# Altium schematic symbol library 0039281063.SchLib: 1 symbol
Pins are listed as number, name and electrical type; pins without a type are passive.

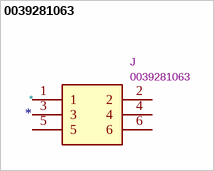
[diagram p0: symbol 0039281063]

## 0039281063
designator *  value 0039281063  Reference: J
Manufacturer_Name: Molex; ki_description: Headers & Wire Housings MINI-FIT JR HDR 06P 94V-2; Footprint: SHDR6W125P550X420_2X3_1380X960X1310P; Datasheet: https://www.arrow.com/en/products/0039281063/molex; Height: 13.1; Manufacturer_Part_Number: 0039281063; Mouser Part Number: N/A; Mouser Price/Stock: https://www.mouser.co.uk/ProductDetail/Molex/0039281063?qs=PBcRNPEHKsqrlal6cr9p2w%3D%3D; Arrow Part Number: 0039281063; Arrow Price/Stock: https://www.arrow.com/en/products/0039281063/molex?utm_currency=USD&region=nac
pins: 1, 2, 3, 4, 5, 6